# Altium footprint library Footprint_SMT_Diode.PcbLib: 12 footprints
Each footprint in its own frame and in the unit in brackets; x right, y up, seen from the top. Pads: shape width x height; smd on the part's side, far side on the other; paste and mask are expansions set on the pad; w line width, h text height; cw(c..) or ccw(c..) is an arc to the next point about the centre after c.
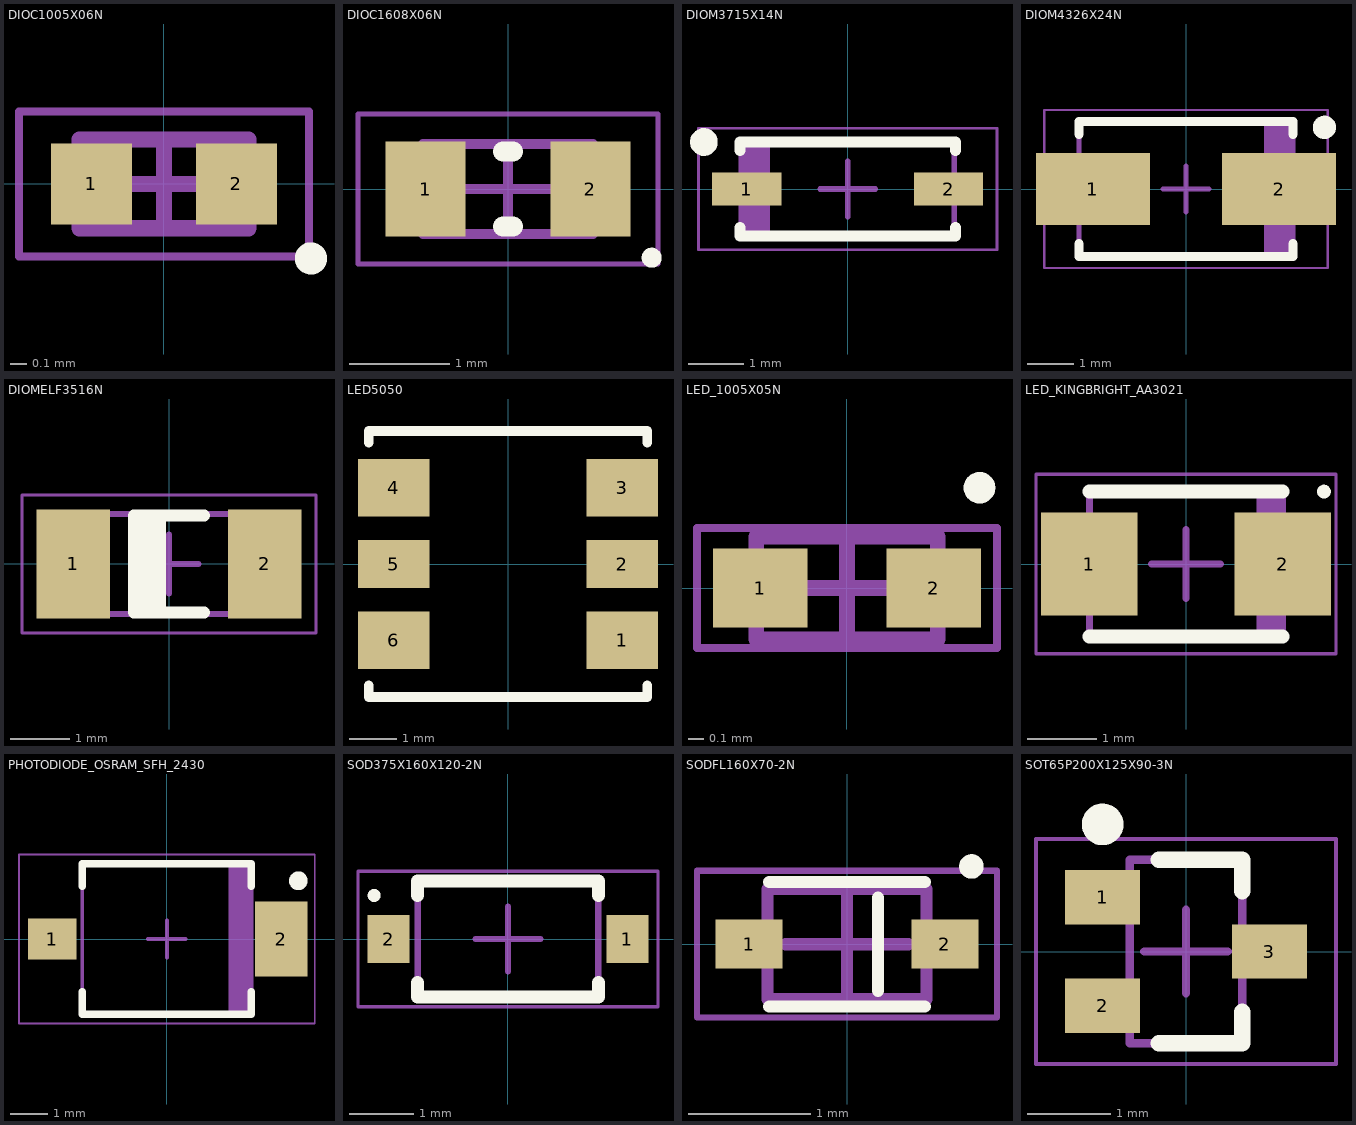
[diagram p0: the footprints below, top view; thin cyan lines are the x and y axes]

## DIOC1005X06N [mm] "0402 Chip Diode, 2-Leads, Body 1.00x0.50mm, IPC Medium Density"
height 0.6
pads (2):
  rect 0.5x0.5 smd: 1(-0.45,0) 2(0.45,0)
Top Overlay:
  circle w0.1: c0.912,-0.462 r0.05
Assembly Top:
  lines w0.1: -0.525,-0.275 -0.525,0.275 0.525,0.275 0.525,-0.275 -0.525,-0.275
Courtyard Top:
  lines w0.05: -0.9,-0.45 -0.9,0.45 0.9,0.45 0.9,-0.45 -0.9,-0.45
  lines w0.1: -0.275,0 0.275,0 ; 0,-0.275 0,0.275
3D body "DIOC1005X06N.step": height 0.6, standoff 0, extent -0.525,-0.275 0.525,0.275

## DIOC1608X06N [mm] "0603 Chip Diode, 2-Leads, Body 1.60x0.80mm, IPC Medium Density"
height 0.65
pads (2):
  rect 0.8x0.95 smd: 1(-0.825,0) 2(0.825,0)
Top Overlay:
  circle w0.1: c1.437,-0.687 r0.05
  lines w0.2: -0.05,-0.375 0.05,-0.375 ; -0.05,0.375 0.05,0.375
Assembly Top:
  lines w0.1: -0.85,-0.45 -0.85,0.45 0.85,0.45 0.85,-0.45 -0.85,-0.45
Courtyard Top:
  lines w0.05: -1.5,-0.75 -1.5,0.75 1.5,0.75 1.5,-0.75 -1.5,-0.75
  lines w0.1: -0.45,0 0.45,0 ; 0,-0.45 0,0.45
3D body "DIOC1608X06N.step": height 0.65, standoff 0, extent -0.85,-0.45 0.85,0.45

## DIOM3715X14N [mm] "Molded Diode, 2-Leads, Body 3.70x1.55mm, IPC Medium Density"
height 1.35
pads (2):
  rect 1.25x0.6 smd: 1(-1.825,0) 2(1.825,0)
Top Overlay:
  circle w0.25: c-2.6,0.85 r0.125
  lines w0.2: -1.95,-0.7 -1.95,-0.85 1.95,-0.85 1.95,-0.7 ; -1.95,0.7 -1.95,0.85 1.95,0.85 1.95,0.7
Assembly Top:
  rectangle: -1.925,-0.85 -1.407,0.85
  lines w0.1: -1.925,-0.85 1.925,-0.85 1.925,0.85 -1.925,0.85 -1.925,-0.85
Courtyard Top:
  lines w0.05: -2.7,-1.1 2.7,-1.1 2.7,1.1 -2.7,1.1 -2.7,-1.1
  lines w0.1: -0.5,0 0.5,0 ; 0,-0.5 0,0.5
3D body "DIOM3715X14N.step": height 1.35, standoff 0, extent -2.145,-0.85 2.145,0.85

## DIOM4326X24N [mm] "DO214AC, SMA, Molded Diode, 2-Leads, Body 4.30x2.60mm, IPC Medium Density"
height 2.4
pads (2):
  rect 2.45x1.55 smd: 1(-2,0) 2(2,0)
Top Overlay:
  circle w0.25: c2.975,1.325 r0.125
  lines w0.2: -2.3,-1.175 -2.3,-1.45 2.3,-1.45 2.3,-1.175 ; -2.3,1.175 -2.3,1.45 2.3,1.45 2.3,1.175
Assembly Top:
  rectangle: 1.681,-1.45 2.3,1.45
  lines w0.1: -2.3,-1.45 -2.3,1.45 2.3,1.45 2.3,-1.45 -2.3,-1.45
Courtyard Top:
  lines w0.05: -3.05,-1.7 -3.05,1.7 3.05,1.7 3.05,-1.7 -3.05,-1.7
  lines w0.1: -0.5,0 0.5,0 ; 0,-0.5 0,0.5
3D body "DIOM4326X24N.step": height 2.4, standoff 0, extent -2.52,-1.45 2.52,1.45

## DIOMELF3516N [mm] "MELF Diode, 2-Leads, Body 3.50x1.65mm, IPC Medium Density"
height 1.7
pads (2):
  rect 1.25x1.85 smd: 1(-1.625,0) 2(1.625,0)
Top Overlay:
  rectangle: -0.6,-0.825 -0.05,0.825
  lines w0.2: 0.6,-0.825 -0.6,-0.825 -0.6,0.825 0.6,0.825
Assembly Top:
  lines w0.1: -1.85,-0.85 1.85,-0.85 1.85,0.85 -1.85,0.85 -1.85,-0.85
Courtyard Top:
  lines w0.05: -2.5,-1.175 2.5,-1.175 2.5,1.175 -2.5,1.175 -2.5,-1.175
  lines w0.1: -0.5,0 0.5,0 ; 0,-0.5 0,0.5
3D body: height 1.69, standoff 0, extent 1.3,-0.85 1.85,0.847
3D body: height 1.68, standoff 0.04, extent -1.3,-0.82 1.3,0.817
3D body: height 1.68, standoff 0.04, extent -0.7,-0.821 -0.1,0.818
3D body: height 1.69, standoff 0, extent -1.85,-0.85 -1.3,0.847

## LED5050 [mm] "5mm x 5mm, 6 pins"
height 1.6
pads (6):
  rect 1.5x1.2 smd: 1(2.4,-1.6) 3(2.4,1.6) 4(-2.4,1.6) 6(-2.4,-1.6)
  rect 1.5x1 smd: 2(2.4,0) 5(-2.4,0)
Top Overlay:
  lines w0.203: -2.921,-2.546 -2.921,-2.794 2.921,-2.794 2.921,-2.546 ; -2.921,2.546 -2.921,2.794 2.921,2.794 2.921,2.546
3D body "led5050.SLDPRT": height 1.5, standoff 0, extent -2.7,-2.5 2.7,2.5

## LED_1005X05N [mm] "General 0402 SMT LED, 2-Leads, Body 1.00x0.50mm, IPC Medium Density"
height 0.5
pads (2):
  rect 0.6x0.5 smd: 1(-0.55,0) 2(0.55,0)
Top Overlay:
  circle w0.1: c0.839,0.635 r0.05
Mechanical 13:
  lines w0.1: -0.575,-0.325 -0.575,0.325 0.575,0.325 0.575,-0.325 -0.575,-0.325
Mechanical 15:
  lines w0.05: -0.95,-0.381 -0.95,0.381 0.95,0.381 0.95,-0.381 -0.95,-0.381
  lines w0.1: -0.325,0 0.325,0 ; 0,-0.325 0,0.325

## LED_KINGBRIGHT_AA3021 [mm] "Kingbright AA3021 Series, 2-Leads, Body 2.70x2.00mm, IPC Medium Density"
height 1.3
pads (2):
  rect 1.4x1.5 smd: 1(-1.4,0) 2(1.4,0)
Top Overlay:
  circle w0.1: c2,1.05 r0.05
  lines w0.2: -1.4,-1.05 1.4,-1.05 ; -1.4,1.05 1.4,1.05
Mechanical 13:
  rectangle: 1.023,-1.05 1.4,1.05
  lines w0.1: -1.4,-1.05 1.4,-1.05 1.4,1.05 -1.4,1.05 -1.4,-1.05
Mechanical 15:
  lines w0.05: -2.175,-1.3 2.175,-1.3 2.175,1.3 -2.175,1.3 -2.175,-1.3
  lines w0.1: -0.5,0 0.5,0 ; 0,-0.5 0,0.5
3D body "KINGBRIGHT_AA3021.step": height 1.3, standoff 0, extent -1.62,-1.05 1.62,1.05

## PHOTODIODE_OSRAM_SFH_2430 [mm] "OSRAM_SFH_2430 Photonic Diode, 2-Leads, Body 4.40x3.85mm"
height 1.3
pads (2):
  rect 1.3x1.1 smd: 1(-3.05,0)
  rect 1.4x2 smd: 2(3.05,0)
Top Overlay:
  circle w0.25: c3.5,1.55 r0.125
  lines w0.2: -2.25,-1.4 -2.25,-2 2.25,-2 2.25,-1.4 ; -2.25,1.4 -2.25,2 2.25,2 2.25,1.4
Mechanical 13:
  rectangle: 1.645,-2 2.25,2
  lines w0.1: -2.25,-2 2.25,-2 2.25,2 -2.25,2 -2.25,-2
Mechanical 15:
  lines w0.05: -3.937,-2.25 3.937,-2.25 3.937,2.25 -3.937,2.25 -3.937,-2.25
  lines w0.1: -0.5,0 0.5,0 ; 0,-0.5 0,0.5
3D body "OSRAM_SFH_2430.step": height 1.3, standoff 0, extent -2.47,-2 2.47,2

## SOD375X160X120-2N [mm] "SODFL, 2-Leads, Body 3.75x1.60x1.20mm, IPC Medium Density"
height 1.35
pads (2):
  rect 0.65x0.75 smd: 1(1.85,0) 2(-1.85,0)
Top Overlay:
  circle w0.1: c-2.075,0.675 r0.05
  lines w0.2: -1.4,-0.675 -1.4,-0.9 1.4,-0.9 1.4,-0.675 ; -1.4,0.675 -1.4,0.9 1.4,0.9 1.4,0.675
Assembly Top:
  lines w0.1: -1.4,-0.9 1.4,-0.9 1.4,0.9 -1.4,0.9 -1.4,-0.9
Courtyard Top:
  lines w0.05: -2.325,-1.05 2.325,-1.05 2.325,1.05 -2.325,1.05 -2.325,-1.05
  lines w0.1: -0.5,0 0.5,0 ; 0,-0.5 0,0.5
3D body "SOD375X160X120-2N.step": height 1.35, standoff 0, extent -1.875,-0.9 1.875,0.9

## SODFL160X70-2N [mm] "SOD-523F, 2-Leads, Body 0.80x1.60mm, IPC Medium Density"
height 0.7
pads (2):
  rect 0.55x0.4 smd: 1(-0.8,0) 2(0.8,0)
Top Overlay:
  circle w0.1: c1.016,0.635 r0.05
  lines w0.1: -0.635,-0.508 0.635,-0.508 ; -0.635,0.508 0.635,0.508 ; 0.254,-0.381 0.254,0.381
Mechanical 13:
  lines w0.1: -0.65,-0.45 0.65,-0.45 0.65,0.45 -0.65,0.45 -0.65,-0.45
Mechanical 15:
  lines w0.05: -1.225,-0.6 1.225,-0.6 1.225,0.6 -1.225,0.6 -1.225,-0.6
  lines w0.1: -0.5,0 0.5,0 ; 0,-0.5 0,0.5
3D body "SODFL160X70-2N.step": height 0.7, standoff 0, extent -0.8,-0.45 0.8,0.45

## SOT65P200X125X90-3N [mm] "SOT70 (SOT323), 3-Leads, Body 2.00x2.20mm, Pitch 0.65mm, IPC Medium Density"
height 1
pads (3):
  rect 0.9x0.65 smd: 1(-1,0.65) 2(-1,-0.65) 3(1,0)
Top Overlay:
  circle w0.25: c-1,1.525 r0.125
  lines w0.2: -0.325,-1.1 0.675,-1.1 0.675,-0.725 ; -0.325,1.1 0.675,1.1 0.675,0.725
Mechanical 13:
  lines w0.1: -0.675,-1.1 0.675,-1.1 0.675,1.1 -0.675,1.1 -0.675,-1.1
Mechanical 15:
  lines w0.05: -1.8,-1.35 1.8,-1.35 1.8,1.35 -1.8,1.35 -1.8,-1.35
  lines w0.1: -0.5,0 0.5,0 ; 0,-0.5 0,0.5
3D body "SOT65P200X125X90-3N.step": height 1, standoff 0, extent -1.2,-1.1 1.2,1.1